# Altium footprint library Diode_STTH302S_2-PIN.PcbLib: 1 footprints
Each footprint in its own frame and in the unit in brackets; x right, y up, seen from the top. Pads: shape width x height; smd on the part's side, far side on the other; paste and mask are expansions set on the pad; w line width, h text height; cw(c..) or ccw(c..) is an arc to the next point about the centre after c.
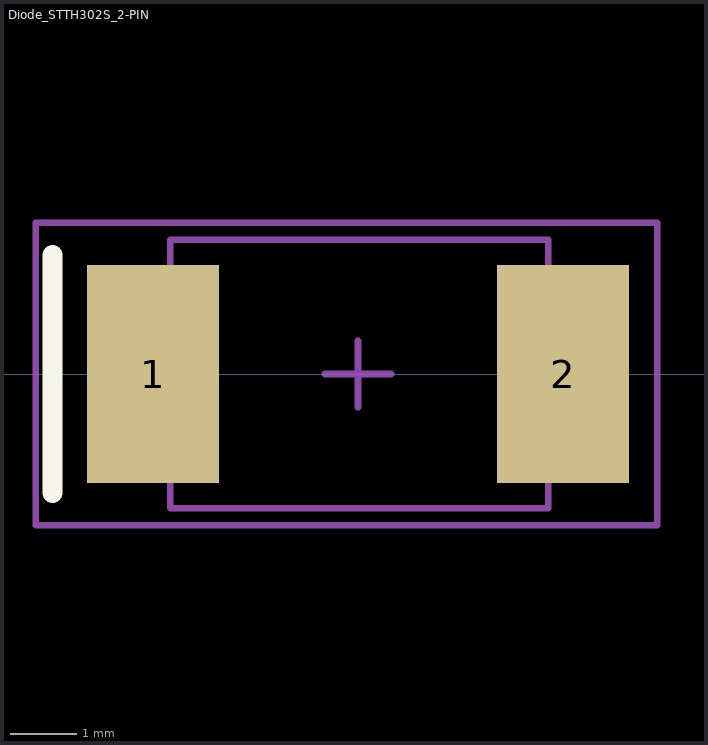
[diagram p0: the footprint, top view; thin cyan lines are the x and y axes]

## Diode_STTH302S_2-PIN [mm]
height 2.45
pads (2):
  rect 2x3.3 smd: 1(-15.5,0) 2(-9.3,0)
Top Overlay:
  lines w0.3: -17.018,-1.8 -17.018,1.8
Mechanical 13:
  lines w0.1: -15.24,-2.032 -9.525,-2.032 -9.525,2.032 -15.24,2.032 -15.24,-2.032
Mechanical 15:
  lines w0.1: -12.9,0 -11.9,0 ; -12.4,-0.5 -12.4,0.5 ; -17.272,-2.286 -7.874,-2.286 -7.874,2.286 -17.272,2.286 -17.272,-2.286
3D body: height 2.45, standoff 0, extent -15.24,-2.032 -9.525,2.032